# Altium schematic symbol library PJ-007sch.SchLib: 1 symbol
Pins are listed as number, name and electrical type; pins without a type are passive.

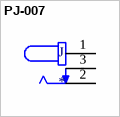
[diagram p0: symbol PJ-007]

## PJ-007
designator J
1.3 x 4.2 mm, 2.0 A, Horizontal, Through Hole, Dc Power Jack Connector; MP: PJ-007; MF: CUI Devices; Availability: Unavailable; SnapEDA_Link: https://www.snapeda.com/parts/PJ-007/CUI%20Devices/view-part/260682/?ref=snap; Price: None; Value: *; Package: None; CUI_purchase_URL: https://www.cuidevices.com/product/interconnect/connectors/dc-power-connectors/jacks/pj-007?utm_source=snapeda.com&utm_medium=referral&utm_campaign=snapedaBOM
footprint CUI_PJ-007
pins: 1, 2, 3